# EAGLE library part 24LC512 (library matlock)
Microchip 24LC512 512kbit 64k x 8bit EEPROM
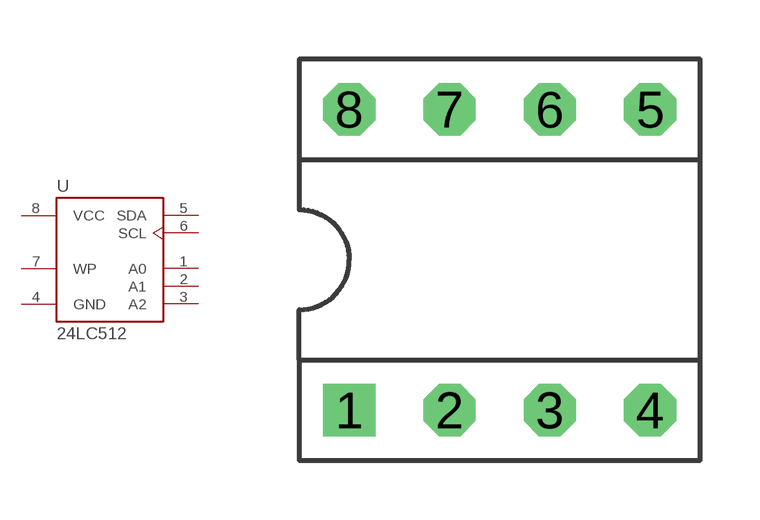
[diagram p5: symbol with the pads of DIP8; footprint DIP8]

Designator prefix U

## 24LC512-*P  [DIP8]
1  A0
2  A1
3  A2
4  GND  pwr
5  SDA
6  SCL
7  WP
8  VCC  pwr

## Footprint DIP8 (pad centres in mm)
drill 0.813 square: 1 -3.81,-3.81
drill 0.813 octagon: 2 -1.27,-3.81; 3 1.27,-3.81; 4 3.81,-3.81; 5 3.81,3.81; 6 1.27,3.81; 7 -1.27,3.81; 8 -3.81,3.81